# Altium schematic symbol library NHD-0216KZW-AB5.Schlib: 1 symbol
Pins are listed as number, name and electrical type; pins without a type are passive.

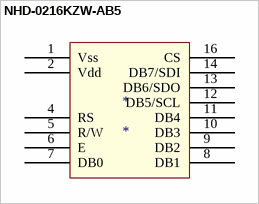
[diagram p0: symbol NHD-0216KZW-AB5]

## NHD-0216KZW-AB5
designator *
pins: 1 Vss, 2 Vdd, 4 RS, 5 R/W, 6 E, 7 DB0, 8 DB1, 9 DB2, 10 DB3, 11 DB4, 12 DB5/SCL, 13 DB6/SDO, 14 DB7/SDI, 16 CS